# EAGLE library part OP727 (library opamp-jqi)
Dual op-amp
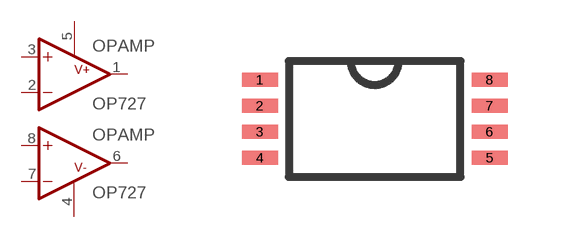
[diagram p5: symbol with the pads of TSSOP8; footprint TSSOP8]

Designator prefix OPAMP

## OP727  [TSSOP8]
1  OUT  out
2  -IN  in
3  +IN  in
4  V-  pwr
5  V+  pwr
6  OUT1  out
7  -IN1  in
8  +IN1  in

## Footprint TSSOP8 (pad centres in mm)
smd 0.9 x 0.35: 1 -2.875,0.975; 2 -2.875,0.325; 3 -2.875,-0.325; 4 -2.875,-0.975; 5 2.875,-0.975; 6 2.875,-0.325; 7 2.875,0.325; 8 2.875,0.975